# Altium schematic symbol library RyuSch.SchLib: 14 symbols
Pins are listed as number, name and electrical type; pins without a type are passive.

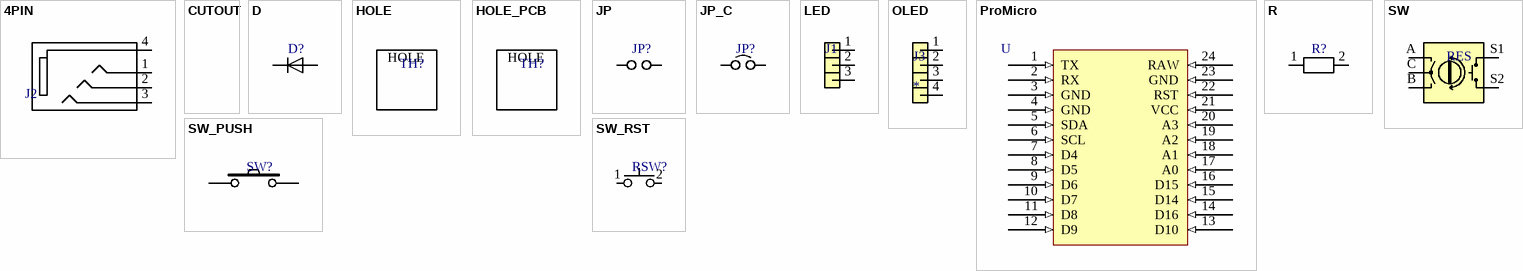
[diagram p0: symbols 4PIN to SW_RST]

## 4PIN
designator J2
footprint TRRS
pins: 1 20, 2 21, 3 22, 4 19

## CUTOUT
designator ?
footprint MX_cutout

## D
designator D?
footprint D_SOD123
pins: 1 K, 2 A

## HOLE
designator TH?
footprint M2_TH_HOLE

## HOLE_PCB
designator TH?
footprint M2_PCB_HOLE
text: HOLE

## JP
designator JP?
footprint JUMPER
pins: J1 28, J2 27

## JP_C
designator JP?
footprint JUMPER_DATA
pins: J1 28, J2 27

## LED
designator J1
footprint LED
pins: 1 15, 2 16, 3 17

## OLED
designator J3
footprint OLED
pins: 1, 2, 3, 4

## ProMicro
designator U
footprint ProMicro
pins: 1 TX (in), 2 RX (in), 3 GND (in), 4 GND (in), 5 SDA (in), 6 SCL (in), 7 D4 (in), 8 D5 (in), 9 D6 (in), 10 D7 (in), 11 D8 (in), 12 D9 (in), 13 D10 (in), 14 D16 (in), 15 D14 (in), 16 D15 (in), 17 A0 (in), 18 A1 (in), 19 A2 (in), 20 A3 (in), 21 VCC (in), 22 RST (in), 23 GND (in), 24 RAW (in)

## R
designator R?
footprint RESISTOR
pins: 1 11, 2 5

## SW
designator RES
footprint Rotary_Encoder_Alps
pins: A, B C, C B, S1 8, S2 9

## SW_PUSH
designator SW?
footprint CherryMX-Hotswap-Dualside
pins: 1, 2

## SW_RST
designator RSW?
footprint RST_SWITCH
pins: 1 13, 2 12